# Altium footprint library Fuente.PcbLib: 28 footprints (part 2 of 2)
Each footprint in its own frame and in the unit in brackets; x right, y up, seen from the top. Pads: shape width x height; smd on the part's side, far side on the other; paste and mask are expansions set on the pad; w line width, h text height; cw(c..) or ccw(c..) is an arc to the next point about the centre after c.
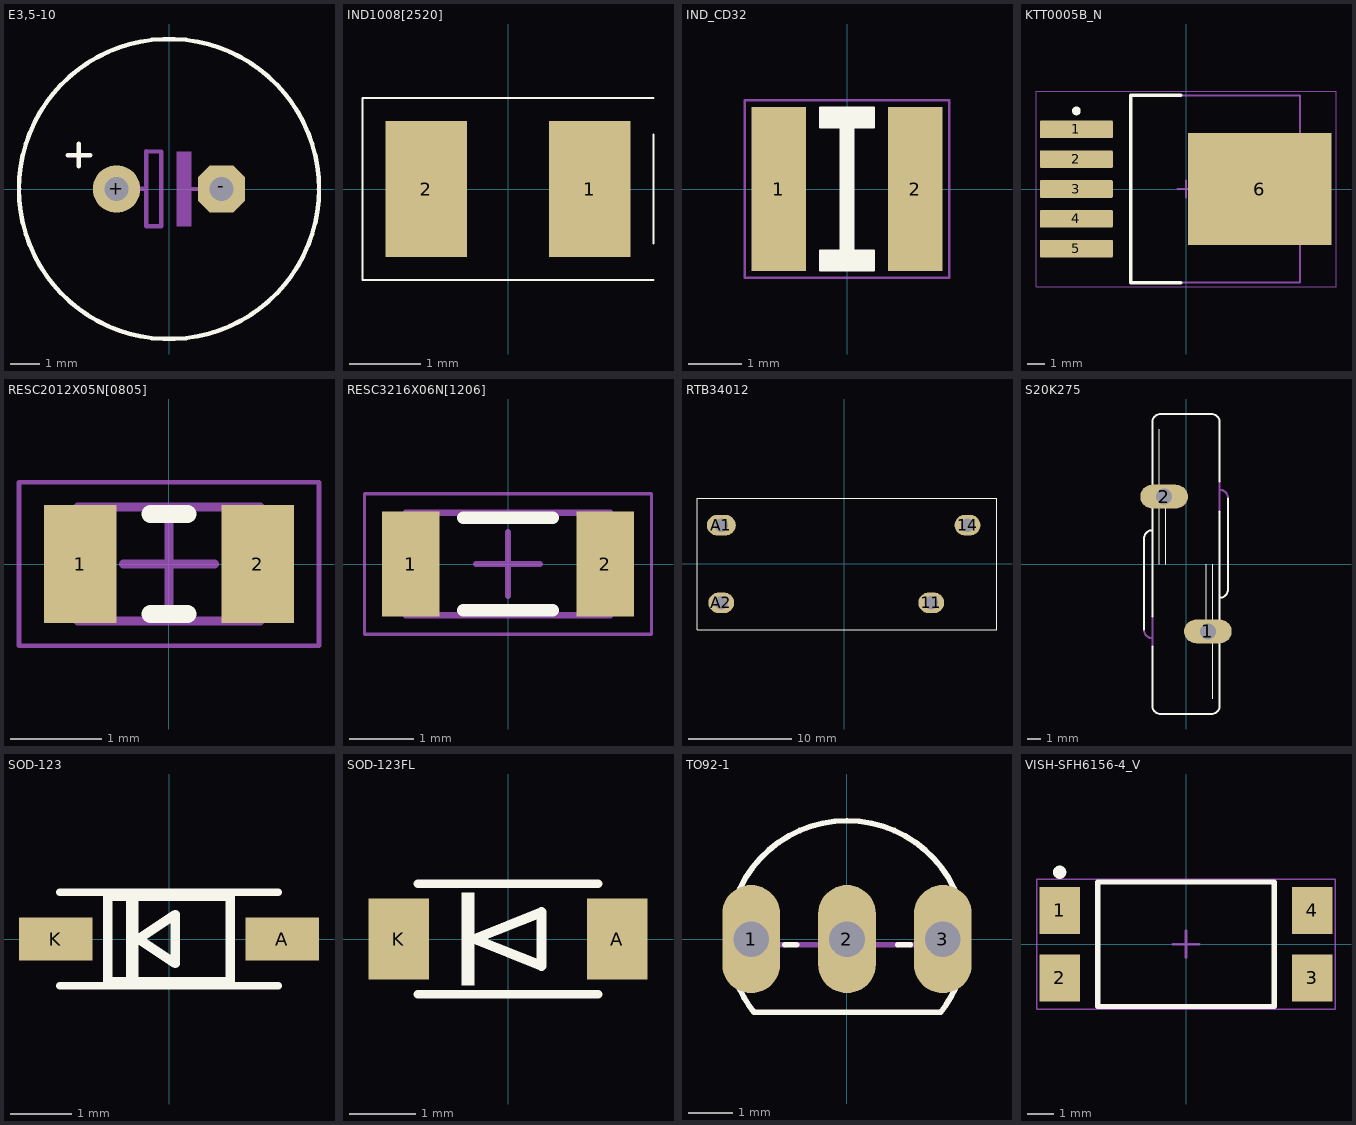
[diagram p1: the footprints below, top view; thin cyan lines are the x and y axes]

## E3,5-10 [mil]
pads (2):
  round 63 hole 32: +(-70,0)
  oct 63x63 hole 32: -(70,0)
Top Overlay:
  circle w6: c0,0 r200
  lines w6: -135,45 -105,45 ; -120,30 -120,60
Mechanical 16:
  rectangle: 10,-50 30,50
  lines w6: -65,0 -30,0 ; 25,0 65,0 ; -30,0 -30,50 -10,50 -10,-50 -30,-50 -30,0

## IND1008[2520] [mil]
pads (2):
  rect 45x75 smd mask+2: 1(45,0) 2(-45,0)
Top Overlay:
  lines w1: 80,-50 -80,-50 -80,50 80,50 ; 80,-30 80,30
3D body "User Library-INDM2520X190N.step": height 70.87, standoff 0, extent -49.2,-40.36 49.22,38.38

## IND_CD32 [mil]
pads (2):
  rect 40x120 smd: 1(-50,0) 2(50,0)
Top Overlay:
  region: -20,60 20,60 20,45 5,45 5,-45 20,-45 20,-60 -20,-60 -20,-45 -5,-45 -5,45 -20,45
  lines w1: -20,-60 20,-60 20,-45 5,-45 5,45 20,45 20,60 -20,60 -20,45 -5,45 -5,-45 -20,-45 -20,-60
Mechanical 14:
  lines w2: -75,-65 -75,65 75,65 75,-65 -75,-65
3D body "User Library-CD32-3_5x2_1.STEP": height 82.68, standoff 0, extent -67.88,-59.05 67.88,59.06

## KTT0005B_N [mm]
pads (6):
  rrect10% 4.15x1 smd: 1(-6.25,3.4) 2(-6.25,1.7) 3(-6.25,0) 4(-6.25,-1.7) 5(-6.25,-3.4)
  rrect2% 8.2x6.4 smd: 6(4.2,0)
Top Overlay:
  circle w0.25: c-6.25,4.45 r0.125
  lines w0.2: -0.3,-5.35 -3.15,-5.35 -3.15,5.35 -0.3,5.35
Mechanical 1:
  text ".Designator" at -1.905,-0.508 h1.3
Mechanical 13:
  lines w0.1: -3.15,-5.325 6.5,-5.325 6.5,5.325 -3.15,5.325 -3.15,-5.325
Mechanical 15:
  lines w0.05: -8.55,-5.575 8.55,-5.575 8.55,5.575 -8.55,5.575 -8.55,-5.575
  lines w0.1: -0.5,0 0.5,0 ; 0,-0.5 0,0.5
3D body: height 4.83, standoff 0, extent -3.15,-5.325 6.5,5.325

## RESC2012X05N[0805] [mm]
pads (2):
  rect 0.8x1.3 smd: 1(-0.975,0) 2(0.975,0)
Top Overlay:
  lines w0.2: -0.2,-0.55 0.2,-0.55 ; -0.2,0.55 0.2,0.55
Mechanical 13:
  lines w0.1: -1,-0.625 1,-0.625 1,0.625 -1,0.625 -1,-0.625
Mechanical 15:
  lines w0.05: -1.65,-0.9 1.65,-0.9 1.65,0.9 -1.65,0.9 -1.65,-0.9
  lines w0.1: -0.5,0 0.5,0 ; 0,-0.5 0,0.5
3D body "RESC2012X05N[0805].step": height 0.5, standoff 0, extent -1,-0.625 1,0.625

## RESC3216X06N[1206] [mm]
pads (2):
  rect 0.9x1.65 smd: 1(-1.525,0) 2(1.525,0)
Top Overlay:
  lines w0.2: -0.7,-0.725 0.7,-0.725 ; -0.7,0.725 0.7,0.725
Mechanical 13:
  lines w0.1: -1.6,-0.8 1.6,-0.8 1.6,0.8 -1.6,0.8 -1.6,-0.8
Mechanical 15:
  lines w0.05: -2.25,-1.1 2.25,-1.1 2.25,1.1 -2.25,1.1 -2.25,-1.1
  lines w0.1: -0.5,0 0.5,0 ; 0,-0.5 0,0.5
3D body "RESC3216X06N[1206].step": height 0.55, standoff 0, extent -1.6,-0.8 1.6,0.8

## RTB34012 [mm]
pads (4):
  oval 2.5x2 hole 1.3: 11(8.4,-3.75) 14(11.9,3.75) A2(-11.9,-3.75)
  oval 2.8x2 hole 1.3: A1(-11.9,3.75)
Top Overlay:
  lines w0.1: -14.25,-6.35 -14.25,6.35 14.75,6.35 14.75,-6.35 -14.25,-6.35
3D body "c-3-1393238-0-e-3d.stp": height 15.71, standoff -3.59, extent -14.2,-6.3 14.8,6.4

## S20K275 [mil]
pads (2):
  oval 141x70.5 hole 47: 1(65,-200) 2(-65,200)
Top Overlay:
  lines w2: -80,0 -80,400 ; -60,0 -60,200 ; 60,-200 60,0 ; 80,-400 80,0
  lines w6: -125,-195 -125,75 cw(c-100,75) -100,100 ; -100,-245 -100,-420 ccw(c-75,-420) -75,-445 75,-445 ccw(c75,-420) 100,-420 100,155 ; -100,-155 -100,420 cw(c-75,420) -75,445 75,445 cw(c75,420) 100,420 100,245 ; 100,-100 ccw(c100,-75) 125,-75 125,195
Mechanical 16:
  lines w6: -125,-195 ccw(c-100,-195) -100,-220 ; -100,-245 -100,-220 ; -100,-155 -100,-220 ; 100,155 100,220 ; 100,245 100,220 ; 125,195 ccw(c100,195) 100,220
3D body "User Library-S20K275.step": height 1092.52, standoff -137.8, extent -104.36,-423.22 100.76,423.23

## SOD-123 [mm]
pads (2):
  rect 1.2x0.7 smd: A(1.85,0) K(-1.85,0)
Top Overlay:
  rectangle: -0.7,-0.7 -0.5,0.7
  lines w0.127: -1.778,-0.762 1.778,-0.762 ; -1.778,0.762 1.778,0.762
  lines w0.152: -1,-0.7 -1,0.7 1,0.7 1,-0.7 -1,-0.7 ; -0.5,0 0.1,-0.4 0.1,0.4 -0.5,0
3D body "CircuitWorks-SOD123.step": height 1.27, standoff 0, extent -1.85,-0.8 1.85,0.8

## SOD-123FL [mm]
pads (2):
  rect 0.91x1.22 smd: A(1.638,0) K(-1.638,0)
Top Overlay:
  rectangle: -0.7,-0.7 -0.5,0.7
  lines w0.127: -1.35,-0.825 1.35,-0.825 ; -1.35,0.825 1.35,0.825
  lines w0.152: -0.5,0 0.5,0.4 0.5,-0.4 -0.5,0
3D body "User Library-SOD123F.step": height 1.2, standoff -0.01, extent -1.875,-0.85 1.875,0.85

## TO92-1 [mm]
pads (3):
  oval 1.3x2.438 hole 0.8: 1(-2.159,0) 2(0,0) 3(2.159,0)
Top Overlay:
  lines w0.127: -2.413,-1.136 ccw(c0,0) -2.095,-1.651 2.108,-1.651 ccw(c0.014,0.002) 2.438,-1.112 ; -2.413,1.136 cw(c0,0) 2.413,1.136 ; -1.404,-0.127 -1.136,-0.127 ; 1.143,-0.127 1.422,-0.127
Mechanical 16:
  lines w0.127: -2.664,-0.127 -1.404,-0.127 ; -2.413,-1.136 cw(c0,0) -2.413,1.136 ; -1.136,-0.127 1.143,-0.127 ; 1.422,-0.127 2.667,-0.127 ; 2.413,-1.136 ccw(c0,0) 2.413,1.136
3D body "User Library-TO92.step": height 8.51, standoff -2.79, extent -2.765,-1.55 2.765,2.55

## VISH-SFH6156-4_V [mm]
pads (4):
  rect 1.525x1.78 smd: 1(-4.763,1.27) 2(-4.763,-1.27) 3(4.763,-1.27) 4(4.763,1.27)
Top Overlay:
  circle w0.25: c-4.763,2.71 r0.125
  lines w0.2: -3.323,-2.345 -3.323,2.345 3.323,2.345 3.323,-2.345 -3.323,-2.345
Mechanical 13:
  lines w0.1: -3.323,-2.345 3.323,-2.345 3.323,2.345 -3.323,2.345 -3.323,-2.345
Mechanical 15:
  lines w0.05: -5.625,-2.445 -5.625,2.445 5.625,2.445 5.625,-2.445 -5.625,-2.445
  lines w0.1: -0.5,0 0.5,0 ; 0,-0.5 0,0.5
3D body: height 4.06, standoff 0.1, extent -3.323,-2.345 3.323,2.345